# EAGLE library part FPC-40P (library Generic Connector)
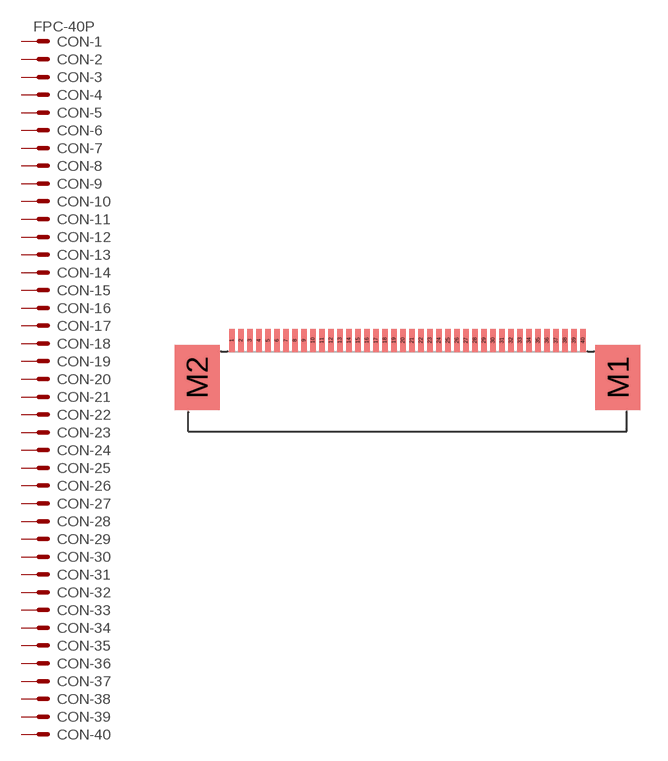
[diagram p4: symbol with the pads of FPC-40P; footprint FPC-40P]

Designator prefix CON; gates -2=K -1=KV -3=K -4=K -5=K -6=K -7=K -8=K -9=K -10=K -11=K -12=K -13=K -14=K -15=K -17=K -18=K -19=K -20=K -21=K -22=K -23=K -24=K -25=K -26=K -27=K -28=K -29=K -30=K -31=K -32=K -16=K -33=K -34=K -35=K -36=K -37=K -38=K -39=K -40=K

## FPC-40P  [FPC-40P]
1  -1:S  pas
2  -2:S  pas
3  -3:S  pas
4  -4:S  pas
5  -5:S  pas
6  -6:S  pas
7  -7:S  pas
8  -8:S  pas
9  -9:S  pas
10  -10:S  pas
11  -11:S  pas
12  -12:S  pas
13  -13:S  pas
14  -14:S  pas
15  -15:S  pas
16  -16:S  pas
17  -17:S  pas
18  -18:S  pas
19  -19:S  pas
20  -20:S  pas
21  -21:S  pas
22  -22:S  pas
23  -23:S  pas
24  -24:S  pas
25  -25:S  pas
26  -26:S  pas
27  -27:S  pas
28  -28:S  pas
29  -29:S  pas
30  -30:S  pas
31  -31:S  pas
32  -32:S  pas
33  -33:S  pas
34  -34:S  pas
35  -35:S  pas
36  -36:S  pas
37  -37:S  pas
38  -38:S  pas
39  -39:S  pas
40  -40:S  pas

## Footprint FPC-40P (pad centres in mm)
smd 0.3 x 1.3: 1 -9.75,3.5; 2 -9.25,3.5; 3 -8.75,3.5; 4 -8.25,3.5; 5 -7.75,3.5; 6 -7.25,3.5; 7 -6.75,3.5; 8 -6.25,3.5; 9 -5.75,3.5; 10 -5.25,3.5; 11 -4.75,3.5; 12 -4.25,3.5; 13 -3.75,3.5; 14 -3.25,3.5; 15 -2.75,3.5; 16 -2.25,3.5; 17 -1.75,3.5; 18 -1.25,3.5; 19 -0.75,3.5; 20 -0.25,3.5; 21 0.25,3.5; 22 0.75,3.5; 23 1.25,3.5; 24 1.75,3.5; 25 2.25,3.5; 26 2.75,3.5; 27 3.25,3.5; 28 3.75,3.5; 29 4.25,3.5; 30 4.75,3.5; 31 5.25,3.5; 32 5.75,3.5; 33 6.25,3.5; 34 6.75,3.5; 35 7.25,3.5; 36 7.75,3.5; 37 8.25,3.5; 38 8.75,3.5; 39 9.25,3.5; 40 9.75,3.5
smd 2.5 x 3.6: M1 11.69,1.45; M2 -11.69,1.45